# Altium schematic symbol library MB0010A.01.A.1.SchLib: 1 symbol
Pins are listed as number, name and electrical type; pins without a type are passive.

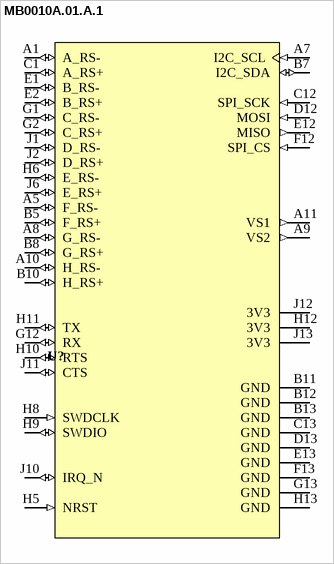
[diagram p0: symbol MB0010A.01.A.1]

## MB0010A.01.A.1
designator U?
pins: A1 A_RS- (io), A5 F_RS- (io), A7 I2C_SCL (in), A8 G_RS- (io), A9 VS2 (out), A10 H_RS- (io), A11 VS1 (out), B5 F_RS+ (io), B7 I2C_SDA (io), B8 G_RS+ (io), B10 H_RS+ (io), B11 GND (power), B12 GND (power), B13 GND (power), C1 A_RS+ (io), C12 SPI_SCK (in), C13 GND (power), D12 MOSI (in), D13 GND (power), E1 B_RS- (io), E2 B_RS+ (io), E12 MISO (out), E13 GND (power), F12 SPI_CS (in), F13 GND (power), G1 C_RS- (io), G2 C_RS+ (io), G12 RX (io), G13 GND (power), H5 NRST (in), H6 E_RS- (io), H8 SWDCLK (in), H9 SWDIO (io), H10 RTS (io), H11 TX (io), H12 3V3 (power), H13 GND (power), J1 D_RS- (io), J2 D_RS+ (io), J6 E_RS+ (io), J10 IRQ_N (io), J11 CTS (io), J12 3V3 (power), J13 3V3 (power)